# Altium schematic symbol library Pogo-Pins.SchLib: 1 symbol
Pins are listed as number, name and electrical type; pins without a type are passive.

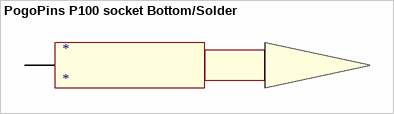
[diagram p0: symbol PogoPins P100 socket Bottom/Solder]

## PogoPins P100 socket Bottom/Solder
designator *
R100-1S, R100-2S, 4100-3S, R100-4S
footprint PogoPins P100 socket Bottom/Solder
pins: 1